# Altium schematic symbol library Cp1210.Schlib: 1 symbol
Pins are listed as number, name and electrical type; pins without a type are passive.

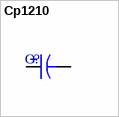
[diagram p0: symbol Cp1210]

## Cp1210
designator C?  (value not drawn)
1210 Polarized Chip Capacitor - Standard
pins: 1, 2